# EAGLE library part SENSOR-ADXL345 (library Elecrow_Discrete)
3-Axis,+/-2g / +/-4g / +/-8g / +/-16g Digital Accelerometer http://www.analog.com/static/imported-files/data_sheets/ADXL345.pdf
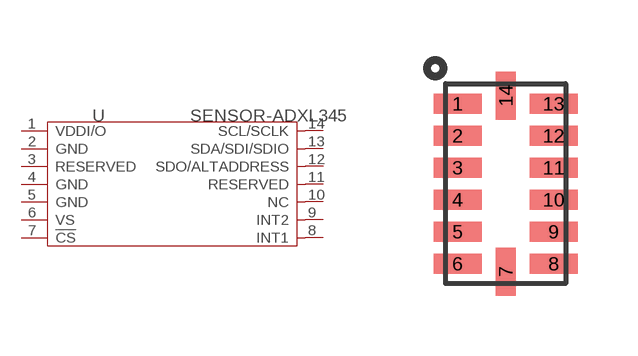
[diagram p12: symbol with the pads of LGA14; footprint LGA14]

Designator prefix U

## SENSOR-ADXL345-LGA14  [LGA14]
1  VDDI/O  sup
2  GND  sup
3  RESERVED
4  GND  sup
5  GND  sup
6  VS
7  !CS
8  INT1
9  INT2
10  NC  nc
11  RESERVED
12  SDO/ALTADDRESS
13  SDA/SDI/SDIO
14  SCL/SCLK  in

## Footprint LGA14 (pad centres in mm)
smd 1.2 x 0.5: 1 -1.2,2; 2 -1.2,1.2; 3 -1.2,0.4; 4 -1.2,-0.4; 5 -1.2,-1.2; 6 -1.2,-2; 8 1.2,-2; 9 1.2,-1.2; 10 1.2,-0.4; 11 1.2,0.4; 12 1.2,1.2; 13 1.2,2
smd 0.5 x 1.2: 7 0,-2.2; 14 0,2.2